# Altium footprint library CONN_TBLOCK_3P5_A.PcbLib: 36 footprints (part 2 of 3)
Each footprint in its own frame and in the unit in brackets; x right, y up, seen from the top. Pads: shape width x height; smd on the part's side, far side on the other; paste and mask are expansions set on the pad; w line width, h text height; cw(c..) or ccw(c..) is an arc to the next point about the centre after c.
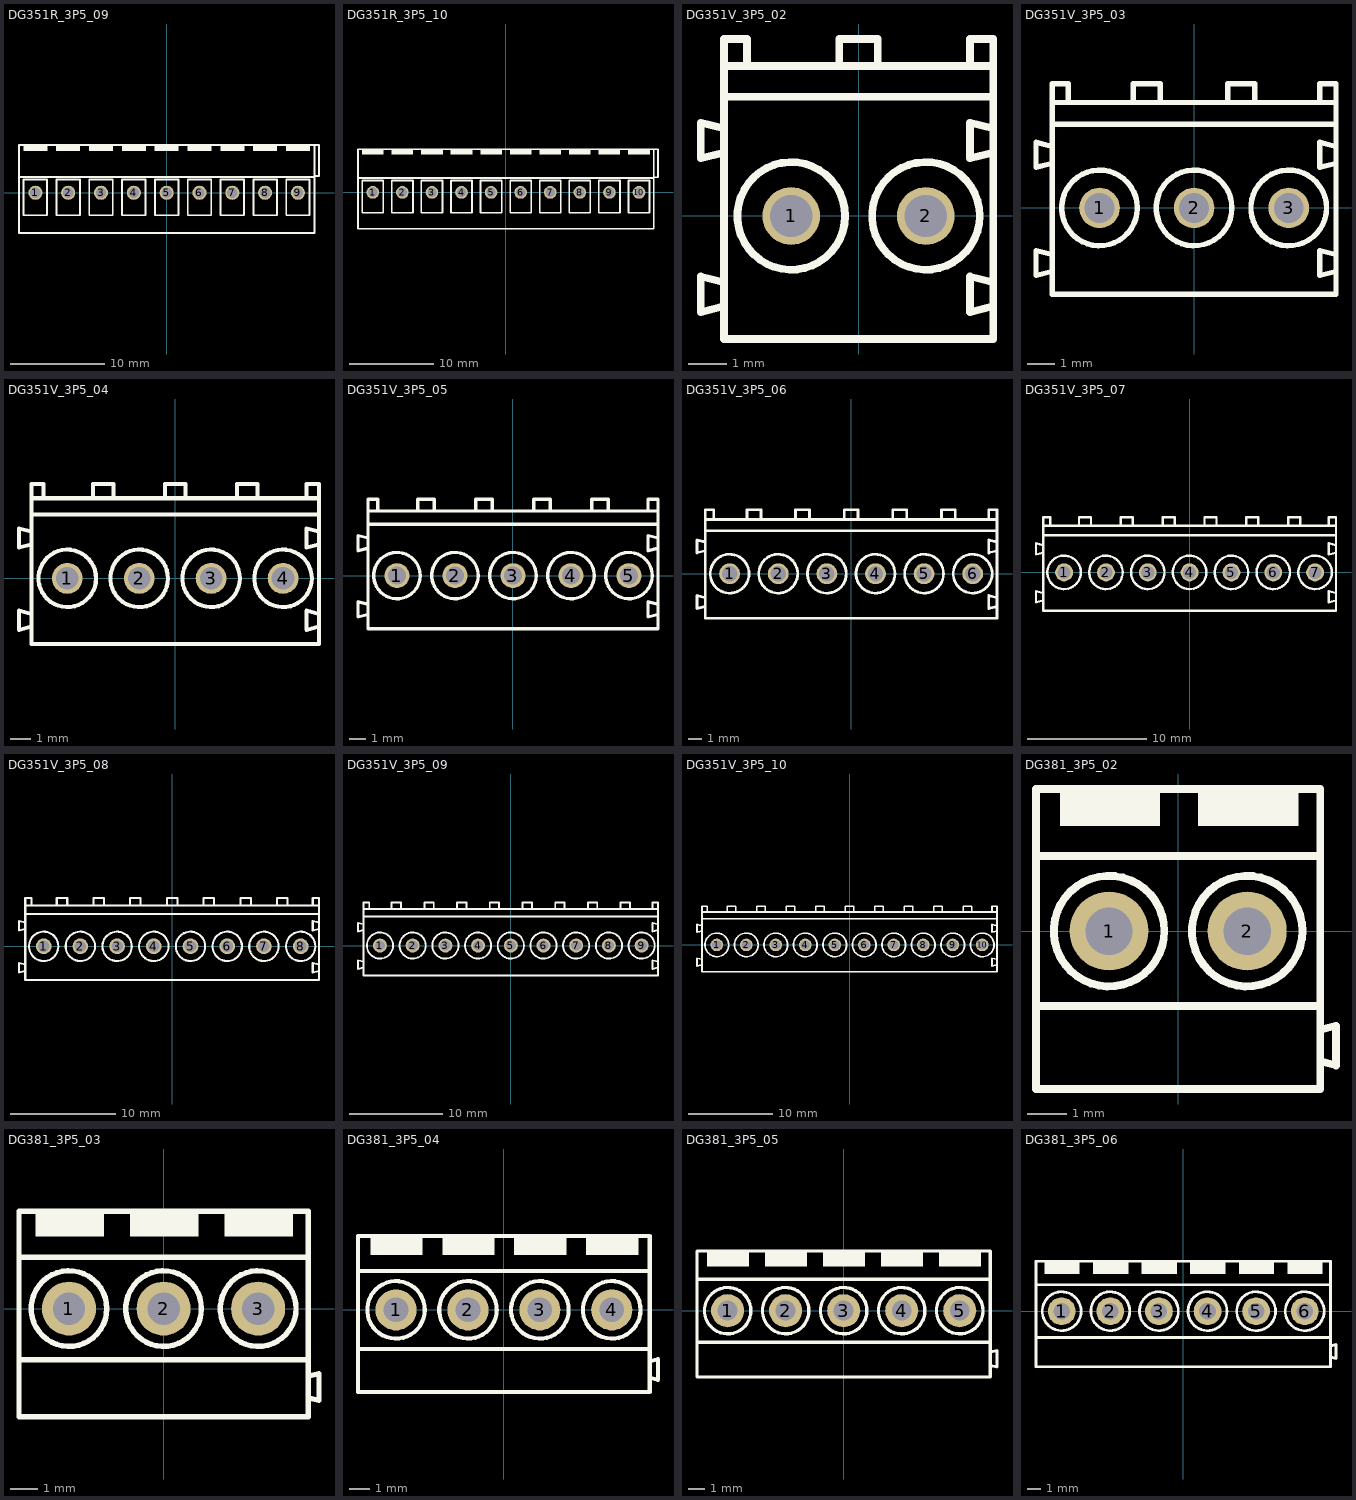
[diagram p1: the footprints below, top view; thin cyan lines are the x and y axes]

## DG351R_3P5_09 [mm] "Terminal Block Screw, Pitch 3.5mm, H 7.6mm"
height 7.6
pads (9):
  round 1.5 / inner round 1.5 / far side rect 2x2.5 hole 1.1: 1(-14,0)
  round 1.5 / inner round 1.5 / far side oval 2x2.5 hole 1.1: 2(-10.5,0) 3(-7,0) 4(-3.5,0) 5(0,0) 6(3.5,0) 7(7,0) 8(10.5,0) 9(14,0)
Top Overlay:
  region: 12.75,5.1 12.75,4.5 15.25,4.5 15.25,5.1
  region: 9.25,5.1 9.25,4.5 11.75,4.5 11.75,5.1
  region: 5.75,5.1 5.75,4.5 8.25,4.5 8.25,5.1
  region: 2.25,5.1 2.25,4.5 4.75,4.5 4.75,5.1
  region: -1.25,5.1 -1.25,4.5 1.25,4.5 1.25,5.1
  region: -4.75,5.1 -4.75,4.5 -2.25,4.5 -2.25,5.1
  region: -8.25,5.1 -8.25,4.5 -5.75,4.5 -5.75,5.1
  region: -11.75,5.1 -11.75,4.5 -9.25,4.5 -9.25,5.1
  region: -15.25,5.1 -15.25,4.5 -12.75,4.5 -12.75,5.1
  lines w0.2: -15.75,1.7 15.75,1.7 ; 15.75,1.8 16.25,1.8 16.25,5.1 15.75,5.1 ; 15.75,5.1 15.75,-4.3 -15.75,-4.3 -15.75,5.1 15.75,5.1 ; -15.25,-2.4 -12.75,-2.4 -12.75,1.4 -15.25,1.4 -15.25,-2.4 ; -11.75,-2.4 -9.25,-2.4 -9.25,1.4 -11.75,1.4 -11.75,-2.4 ; -8.25,-2.4 -5.75,-2.4 -5.75,1.4 -8.25,1.4 -8.25,-2.4 ; -4.75,-2.4 -2.25,-2.4 -2.25,1.4 -4.75,1.4 -4.75,-2.4 ; -1.25,-2.4 1.25,-2.4 1.25,1.4 -1.25,1.4 -1.25,-2.4 ; 2.25,-2.4 4.75,-2.4 4.75,1.4 2.25,1.4 2.25,-2.4 ; 5.75,-2.4 8.25,-2.4 8.25,1.4 5.75,1.4 5.75,-2.4 ; 9.25,-2.4 11.75,-2.4 11.75,1.4 9.25,1.4 9.25,-2.4 ; 12.75,-2.4 15.25,-2.4 15.25,1.4 12.75,1.4 12.75,-2.4
3D body "DG351R-3.5-09P.stp": height 7.65, standoff -4.45, extent -15.795,-4.2 16.245,5

## DG351R_3P5_10 [mm] "Terminal Block Screw, Pitch 3.5mm, H 7.6mm"
height 7.6
pads (10):
  round 1.5 / inner round 1.5 / far side rect 2x2.5 hole 1.1: 1(-15.75,0)
  round 1.5 / inner round 1.5 / far side oval 2x2.5 hole 1.1: 2(-12.25,0) 3(-8.75,0) 4(-5.25,0) 5(-1.75,0) 6(1.75,0) 7(5.25,0) 8(8.75,0) 9(12.25,0) 10(15.75,0)
Top Overlay:
  region: -17,5.1 -17,4.5 -14.5,4.5 -14.5,5.1
  region: -13.5,5.1 -13.5,4.5 -11,4.5 -11,5.1
  region: -10,5.1 -10,4.5 -7.5,4.5 -7.5,5.1
  region: -6.5,5.1 -6.5,4.5 -4,4.5 -4,5.1
  region: -3,5.1 -3,4.5 -0.5,4.5 -0.5,5.1
  region: 0.5,5.1 0.5,4.5 3,4.5 3,5.1
  region: 4,5.1 4,4.5 6.5,4.5 6.5,5.1
  region: 7.5,5.1 7.5,4.5 10,4.5 10,5.1
  region: 11,5.1 11,4.5 13.5,4.5 13.5,5.1
  region: 14.5,5.1 14.5,4.5 17,4.5 17,5.1
  lines w0.2: -17.5,1.7 17.5,1.7 ; 17.5,1.8 18,1.8 18,5.1 17.5,5.1 ; 17.5,5.1 -17.5,5.1 -17.5,-4.3 17.5,-4.3 17.5,5.1 ; -17,-2.4 -17,1.4 -14.5,1.4 -14.5,-2.4 -17,-2.4 ; -13.5,-2.4 -13.5,1.4 -11,1.4 -11,-2.4 -13.5,-2.4 ; -10,-2.4 -10,1.4 -7.5,1.4 -7.5,-2.4 -10,-2.4 ; -6.5,-2.4 -6.5,1.4 -4,1.4 -4,-2.4 -6.5,-2.4 ; -3,-2.4 -3,1.4 -0.5,1.4 -0.5,-2.4 -3,-2.4 ; 0.5,-2.4 0.5,1.4 3,1.4 3,-2.4 0.5,-2.4 ; 4,-2.4 4,1.4 6.5,1.4 6.5,-2.4 4,-2.4 ; 7.5,-2.4 7.5,1.4 10,1.4 10,-2.4 7.5,-2.4 ; 11,-2.4 11,1.4 13.5,1.4 13.5,-2.4 11,-2.4 ; 14.5,-2.4 14.5,1.4 17,1.4 17,-2.4 14.5,-2.4
3D body "DG351R-3.5-10P.stp": height 7.65, standoff -4.45, extent -17.545,-4.2 17.995,5

## DG351V_3P5_02 [mm] "Terminal Block Screw, Pitch 3.5mm, H 9.2mm"
height 9.2
pads (2):
  round 1.5 / inner round 1.5 / far side rect 2x2.5 hole 1.1: 1(-1.75,0)
  round 1.5 / inner round 1.5 / far side oval 2x2.5 hole 1.1: 2(1.75,0)
Top Overlay:
  circle w0.2: c-1.75,0 r1.4
  circle w0.2: c1.75,0 r1.4
  lines w0.2: -3.512,-2.353 -4.1,-2.5 -4.1,-1.575 -3.506,-1.724 ; -3.512,1.647 -4.1,1.5 -4.1,2.425 -3.506,2.276 ; -3.5,3.1 3.5,3.1 ; -2.9,3.9 -2.9,4.6 -3.5,4.6 -3.5,3.9 ; -0.5,3.9 -0.5,4.6 0.5,4.6 0.5,3.9 ; 2.9,3.9 2.9,4.6 3.5,4.6 3.5,3.9 ; 3.488,-2.353 2.9,-2.5 2.9,-1.575 3.494,-1.724 ; 3.488,1.647 2.9,1.5 2.9,2.425 3.494,2.276 ; -3.5,3.9 3.5,3.9 ; -3.5,3.9 -3.5,-3.2 3.5,-3.2 3.5,3.9
3D body "DG351V-3.5-02P.stp": height 9.3, standoff -4.4, extent -4.02,-3.1 3.52,4.5

## DG351V_3P5_03 [mm] "Terminal Block Screw, Pitch 3.5mm, H 9.2mm"
height 9.2
pads (3):
  round 1.5 / inner round 1.5 / far side rect 2x2.5 hole 1.1: 1(-3.5,0)
  round 1.5 / inner round 1.5 / far side oval 2x2.5 hole 1.1: 2(0,0) 3(3.5,0)
Top Overlay:
  circle w0.2: c-3.5,0 r1.4
  circle w0.2: c0,0 r1.4
  circle w0.2: c3.5,0 r1.4
  lines w0.2: -5.262,-2.353 -5.85,-2.5 -5.85,-1.575 -5.256,-1.724 ; -5.262,1.647 -5.85,1.5 -5.85,2.425 -5.256,2.276 ; -5.25,3.1 5.25,3.1 ; -4.65,3.9 -4.65,4.6 -5.25,4.6 -5.25,3.9 ; -2.25,3.9 -2.25,4.6 -1.25,4.6 -1.25,3.9 ; 1.25,3.9 1.25,4.6 2.25,4.6 2.25,3.9 ; 4.65,3.9 4.65,4.6 5.25,4.6 5.25,3.9 ; 5.238,-2.353 4.65,-2.5 4.65,-1.575 5.244,-1.724 ; 5.238,1.647 4.65,1.5 4.65,2.425 5.244,2.276 ; -5.25,3.9 5.25,3.9 ; -5.25,3.9 -5.25,-3.2 5.25,-3.2 5.25,3.9
3D body "DG351V-3.5-03P.stp": height 9.2, standoff -4.5, extent -5.77,-3.1 5.27,4.5

## DG351V_3P5_04 [mm] "Terminal Block Screw, Pitch 3.5mm, H 9.2mm"
height 9.2
pads (4):
  round 1.5 / inner round 1.5 / far side rect 2x2.5 hole 1.1: 1(-5.25,0)
  round 1.5 / inner round 1.5 / far side oval 2x2.5 hole 1.1: 2(-1.75,0) 3(1.75,0) 4(5.25,0)
Top Overlay:
  circle w0.2: c-5.25,0 r1.4
  circle w0.2: c-1.75,0 r1.4
  circle w0.2: c1.75,0 r1.4
  circle w0.2: c5.25,0 r1.4
  lines w0.2: -7.012,-2.353 -7.6,-2.5 -7.6,-1.575 -7.006,-1.724 ; -7.012,1.647 -7.6,1.5 -7.6,2.425 -7.006,2.276 ; -7,3.1 7,3.1 ; -6.4,3.9 -6.4,4.6 -7,4.6 -7,3.9 ; -4,3.9 -4,4.6 -3,4.6 -3,3.9 ; -0.5,3.9 -0.5,4.6 0.5,4.6 0.5,3.9 ; 3,3.9 3,4.6 4,4.6 4,3.9 ; 6.4,3.9 6.4,4.6 7,4.6 7,3.9 ; 6.988,-2.353 6.4,-2.5 6.4,-1.575 6.994,-1.724 ; 6.988,1.647 6.4,1.5 6.4,2.425 6.994,2.276 ; -7,3.9 7,3.9 ; -7,3.9 -7,-3.2 7,-3.2 7,3.9
3D body "DG351V-3.5-04P.stp": height 27.7, standoff 14, extent -7.545,-3.1 6.995,4.5

## DG351V_3P5_05 [mm] "Terminal Block Screw, Pitch 3.5mm, H 9.2mm"
height 9.2
pads (5):
  round 1.5 / inner round 1.5 / far side rect 2x2.5 hole 1.1: 1(-7,0)
  round 1.5 / inner round 1.5 / far side oval 2x2.5 hole 1.1: 2(-3.5,0) 3(0,0) 4(3.5,0) 5(7,0)
Top Overlay:
  circle w0.2: c7,0 r1.4
  circle w0.2: c3.5,0 r1.4
  circle w0.2: c0,0 r1.4
  circle w0.2: c-3.5,0 r1.4
  circle w0.2: c-7,0 r1.4
  lines w0.2: -8.762,-2.353 -9.35,-2.5 -9.35,-1.575 -8.756,-1.724 ; -8.762,1.647 -9.35,1.5 -9.35,2.425 -8.756,2.276 ; -8.75,3.1 8.75,3.1 ; -8.15,3.9 -8.15,4.6 -8.75,4.6 -8.75,3.9 ; -5.75,3.9 -5.75,4.6 -4.75,4.6 -4.75,3.9 ; -2.25,3.9 -2.25,4.6 -1.25,4.6 -1.25,3.9 ; 1.25,3.9 1.25,4.6 2.25,4.6 2.25,3.9 ; 4.75,3.9 4.75,4.6 5.75,4.6 5.75,3.9 ; 8.15,3.9 8.15,4.6 8.75,4.6 8.75,3.9 ; 8.738,-2.353 8.15,-2.5 8.15,-1.575 8.744,-1.724 ; 8.738,1.647 8.15,1.5 8.15,2.425 8.744,2.276 ; -8.75,3.9 -8.75,-3.2 8.75,-3.2 8.75,3.9 ; -8.75,3.9 8.75,3.9
3D body "DG351V-3.5-02P.stp": height 9.3, standoff -4.4, extent 1.23,-3.1 8.77,4.5
3D body "DG351V-3.5-03P.stp": height 9.2, standoff -4.5, extent -9.27,-3.1 1.77,4.5

## DG351V_3P5_06 [mm] "Terminal Block Screw, Pitch 3.5mm, H 9.2mm"
height 9.2
pads (6):
  round 1.5 / inner round 1.5 / far side rect 2x2.5 hole 1.1: 1(-8.75,0)
  round 1.5 / inner round 1.5 / far side oval 2x2.5 hole 1.1: 2(-5.25,0) 3(-1.75,0) 4(1.75,0) 5(5.25,0) 6(8.75,0)
Top Overlay:
  circle w0.2: c-8.75,0 r1.4
  circle w0.2: c-5.25,0 r1.4
  circle w0.2: c-1.75,0 r1.4
  circle w0.2: c1.75,0 r1.4
  circle w0.2: c5.25,0 r1.4
  circle w0.2: c8.75,0 r1.4
  lines w0.2: -10.512,-2.353 -11.1,-2.5 -11.1,-1.575 -10.506,-1.724 ; -10.512,1.647 -11.1,1.5 -11.1,2.425 -10.506,2.276 ; -10.5,3.1 10.5,3.1 ; -9.9,3.9 -9.9,4.6 -10.5,4.6 -10.5,3.9 ; -7.5,3.9 -7.5,4.6 -6.5,4.6 -6.5,3.9 ; -4,3.9 -4,4.6 -3,4.6 -3,3.9 ; -0.5,3.9 -0.5,4.6 0.5,4.6 0.5,3.9 ; 3,3.9 3,4.6 4,4.6 4,3.9 ; 6.5,3.9 6.5,4.6 7.5,4.6 7.5,3.9 ; 9.9,3.9 9.9,4.6 10.5,4.6 10.5,3.9 ; 10.488,-2.353 9.9,-2.5 9.9,-1.575 10.494,-1.724 ; 10.488,1.647 9.9,1.5 9.9,2.425 10.494,2.276 ; -10.5,3.9 10.5,3.9 ; -10.5,3.9 -10.5,-3.2 10.5,-3.2 10.5,3.9
3D body "DG351V-3.5-06P.stp": height -8.8, standoff -22.5, extent -11.045,-3.1 10.495,4.5

## DG351V_3P5_07 [mm] "Terminal Block Screw, Pitch 3.5mm, H 9.2mm"
height 9.2
pads (7):
  round 1.5 / inner round 1.5 / far side rect 2x2.5 hole 1.1: 1(-10.5,0)
  round 1.5 / inner round 1.5 / far side oval 2x2.5 hole 1.1: 2(-7,0) 3(-3.5,0) 4(0,0) 5(3.5,0) 6(7,0) 7(10.5,0)
Top Overlay:
  circle w0.2: c-10.5,0 r1.4
  circle w0.2: c-7,0 r1.4
  circle w0.2: c-3.5,0 r1.4
  circle w0.2: c0,0 r1.4
  circle w0.2: c3.5,0 r1.4
  circle w0.2: c7,0 r1.4
  circle w0.2: c10.5,0 r1.4
  lines w0.2: -12.262,-2.353 -12.85,-2.5 -12.85,-1.575 -12.256,-1.724 ; -12.262,1.647 -12.85,1.5 -12.85,2.425 -12.256,2.276 ; -12.25,3.1 12.25,3.1 ; -11.65,3.9 -11.65,4.6 -12.25,4.6 -12.25,3.9 ; -9.25,3.9 -9.25,4.6 -8.25,4.6 -8.25,3.9 ; -5.75,3.9 -5.75,4.6 -4.75,4.6 -4.75,3.9 ; -2.25,3.9 -2.25,4.6 -1.25,4.6 -1.25,3.9 ; 1.25,3.9 1.25,4.6 2.25,4.6 2.25,3.9 ; 4.75,3.9 4.75,4.6 5.75,4.6 5.75,3.9 ; 8.25,3.9 8.25,4.6 9.25,4.6 9.25,3.9 ; 11.65,3.9 11.65,4.6 12.25,4.6 12.25,3.9 ; 12.238,-2.353 11.65,-2.5 11.65,-1.575 12.244,-1.724 ; 12.238,1.647 11.65,1.5 11.65,2.425 12.244,2.276 ; -12.25,3.9 12.25,3.9 ; -12.25,3.9 -12.25,-3.2 12.25,-3.2 12.25,3.9
3D body "DG351V-3.5-07P.stp": height 27.7, standoff 14, extent -12.795,-3.1 12.245,4.5

## DG351V_3P5_08 [mm] "Terminal Block Screw, Pitch 3.5mm, H 9.2mm"
height 9.2
pads (8):
  round 1.5 / inner round 1.5 / far side rect 2x2.5 hole 1.1: 1(-12.25,0)
  round 1.5 / inner round 1.5 / far side oval 2x2.5 hole 1.1: 2(-8.75,0) 3(-5.25,0) 4(-1.75,0) 5(1.75,0) 6(5.25,0) 7(8.75,0) 8(12.25,0)
Top Overlay:
  circle w0.2: c-12.25,0 r1.4
  circle w0.2: c-8.75,0 r1.4
  circle w0.2: c-5.25,0 r1.4
  circle w0.2: c-1.75,0 r1.4
  circle w0.2: c1.75,0 r1.4
  circle w0.2: c5.25,0 r1.4
  circle w0.2: c8.75,0 r1.4
  circle w0.2: c12.25,0 r1.4
  lines w0.2: -14.012,-2.353 -14.6,-2.5 -14.6,-1.575 -14.006,-1.724 ; -14.012,1.647 -14.6,1.5 -14.6,2.425 -14.006,2.276 ; -14,3.1 14,3.1 ; -13.4,3.9 -13.4,4.6 -14,4.6 -14,3.9 ; -11,3.9 -11,4.6 -10,4.6 -10,3.9 ; -7.5,3.9 -7.5,4.6 -6.5,4.6 -6.5,3.9 ; -4,3.9 -4,4.6 -3,4.6 -3,3.9 ; -0.5,3.9 -0.5,4.6 0.5,4.6 0.5,3.9 ; 3,3.9 3,4.6 4,4.6 4,3.9 ; 6.5,3.9 6.5,4.6 7.5,4.6 7.5,3.9 ; 10,3.9 10,4.6 11,4.6 11,3.9 ; 13.4,3.9 13.4,4.6 14,4.6 14,3.9 ; 13.988,-2.353 13.4,-2.5 13.4,-1.575 13.994,-1.724 ; 13.988,1.647 13.4,1.5 13.4,2.425 13.994,2.276 ; -14,3.9 14,3.9 ; -14,3.9 -14,-3.2 14,-3.2 14,3.9
3D body "DG351V-3.5-08P.stp": height 9.2, standoff -4.5, extent -14.545,-3.1 13.995,4.5

## DG351V_3P5_09 [mm] "Terminal Block Screw, Pitch 3.5mm, H 9.2mm"
height 9.2
pads (9):
  round 1.5 / inner round 1.5 / far side rect 2x2.5 hole 1.1: 1(-14,0)
  round 1.5 / inner round 1.5 / far side oval 2x2.5 hole 1.1: 2(-10.5,0) 3(-7,0) 4(-3.5,0) 5(0,0) 6(3.5,0) 7(7,0) 8(10.5,0) 9(14,0)
Top Overlay:
  circle w0.2: c-14,0 r1.4
  circle w0.2: c-10.5,0 r1.4
  circle w0.2: c-7,0 r1.4
  circle w0.2: c-3.5,0 r1.4
  circle w0.2: c0,0 r1.4
  circle w0.2: c3.5,0 r1.4
  circle w0.2: c7,0 r1.4
  circle w0.2: c10.5,0 r1.4
  circle w0.2: c14,0 r1.4
  lines w0.2: -15.762,-2.353 -16.35,-2.5 -16.35,-1.575 -15.756,-1.724 ; -15.762,1.647 -16.35,1.5 -16.35,2.425 -15.756,2.276 ; -15.75,3.1 15.75,3.1 ; -15.15,3.9 -15.15,4.6 -15.75,4.6 -15.75,3.9 ; -12.75,3.9 -12.75,4.6 -11.75,4.6 -11.75,3.9 ; -9.25,3.9 -9.25,4.6 -8.25,4.6 -8.25,3.9 ; -5.75,3.9 -5.75,4.6 -4.75,4.6 -4.75,3.9 ; -2.25,3.9 -2.25,4.6 -1.25,4.6 -1.25,3.9 ; 1.25,3.9 1.25,4.6 2.25,4.6 2.25,3.9 ; 4.75,3.9 4.75,4.6 5.75,4.6 5.75,3.9 ; 8.25,3.9 8.25,4.6 9.25,4.6 9.25,3.9 ; 11.75,3.9 11.75,4.6 12.75,4.6 12.75,3.9 ; 15.15,3.9 15.15,4.6 15.75,4.6 15.75,3.9 ; 15.738,-2.353 15.15,-2.5 15.15,-1.575 15.744,-1.724 ; 15.738,1.647 15.15,1.5 15.15,2.425 15.744,2.276 ; -15.75,3.9 15.75,3.9 ; -15.75,3.9 -15.75,-3.2 15.75,-3.2 15.75,3.9
3D body "DG351V-3.5-09P.stp": height -8.8, standoff -22.5, extent -16.295,-3.1 15.745,4.5

## DG351V_3P5_10 [mm] "Terminal Block Screw, Pitch 3.5mm, H 9.2mm"
height 9.2
pads (10):
  round 1.5 / inner round 1.5 / far side rect 2x2.5 hole 1.1: 1(-15.75,0)
  round 1.5 / inner round 1.5 / far side oval 2x2.5 hole 1.1: 2(-12.25,0) 3(-8.75,0) 4(-5.25,0) 5(-1.75,0) 6(1.75,0) 7(5.25,0) 8(8.75,0) 9(12.25,0) 10(15.75,0)
Top Overlay:
  circle w0.2: c15.75,0 r1.4
  circle w0.2: c12.25,0 r1.4
  circle w0.2: c8.75,0 r1.4
  circle w0.2: c5.25,0 r1.4
  circle w0.2: c1.75,0 r1.4
  circle w0.2: c-1.75,0 r1.4
  circle w0.2: c-5.25,0 r1.4
  circle w0.2: c-8.75,0 r1.4
  circle w0.2: c-12.25,0 r1.4
  circle w0.2: c-15.75,0 r1.4
  lines w0.2: -17.512,-2.353 -18.1,-2.5 -18.1,-1.575 -17.506,-1.724 ; -17.512,1.647 -18.1,1.5 -18.1,2.425 -17.506,2.276 ; -17.5,3.1 17.5,3.1 ; -16.9,3.9 -16.9,4.6 -17.5,4.6 -17.5,3.9 ; -14.5,3.9 -14.5,4.6 -13.5,4.6 -13.5,3.9 ; -11,3.9 -11,4.6 -10,4.6 -10,3.9 ; -7.5,3.9 -7.5,4.6 -6.5,4.6 -6.5,3.9 ; -4,3.9 -4,4.6 -3,4.6 -3,3.9 ; -0.5,3.9 -0.5,4.6 0.5,4.6 0.5,3.9 ; 3,3.9 3,4.6 4,4.6 4,3.9 ; 6.5,3.9 6.5,4.6 7.5,4.6 7.5,3.9 ; 10,3.9 10,4.6 11,4.6 11,3.9 ; 13.5,3.9 13.5,4.6 14.5,4.6 14.5,3.9 ; 16.9,3.9 16.9,4.6 17.5,4.6 17.5,3.9 ; 17.488,-2.353 16.9,-2.5 16.9,-1.575 17.494,-1.724 ; 17.488,1.647 16.9,1.5 16.9,2.425 17.494,2.276 ; -17.5,3.9 -17.5,-3.2 17.5,-3.2 17.5,3.9 ; -17.5,3.9 17.5,3.9
3D body "DG351V-3.5-10P.stp": height 9.2, standoff -4.5, extent -18.045,-3.1 17.495,4.5

## DG381_3P5_02 [mm] "Terminal Block Screw, Pitch 3.5mm, H 8.6mm"
height 8.6
pads (2):
  round 2 / inner round 2 / far side rect 2.4x3 hole 1.2: 1(-1.75,0)
  round 2 / inner round 2 / far side oval 2.4x3 hole 1.2: 2(1.75,0)
Top Overlay:
  circle w0.2: c-1.75,0 r1.4
  circle w0.2: c1.75,0 r1.4
  rectangle: -2.996,2.667 -0.456,3.556
  rectangle: 0.504,2.667 3.044,3.556
  lines w0.2: -3.6,-1.9 3.6,-1.9 ; -3.6,1.9 3.6,1.9 ; 3.6,-3.3 4,-3.4 4,-2.4 3.6,-2.5 ; -3.6,-4 -3.6,3.6 3.6,3.6 3.6,-4 -3.6,-4
3D body "DG381-3.5-02P-14.stp": height 8.6, standoff -3.6, extent -3.5,-3.875 3.9,3.525

## DG381_3P5_03 [mm] "Terminal Block Screw, Pitch 3.5mm, H 8.6mm"
height 8.6
pads (3):
  round 2 / inner round 2 / far side rect 2.4x3 hole 1.2: 1(-3.5,0)
  round 2 / inner round 2 / far side oval 2.4x3 hole 1.2: 2(0,0) 3(3.5,0)
Top Overlay:
  circle w0.2: c0,0 r1.4
  circle w0.2: c3.5,0 r1.4
  circle w0.2: c-3.5,0 r1.4
  rectangle: -1.246,2.667 1.294,3.556
  rectangle: 2.254,2.667 4.794,3.556
  rectangle: -4.746,2.667 -2.206,3.556
  lines w0.2: -5.35,-1.9 5.35,-1.9 ; -5.35,1.9 5.35,1.9 ; 5.35,-3.3 5.75,-3.4 5.75,-2.4 5.35,-2.5 ; -5.35,-4 -5.35,3.6 5.35,3.6 5.35,-4 -5.35,-4
3D body "DG381-3.5-03P-14.stp": height 8.6, standoff -3.6, extent -5.25,-3.9 5.65,3.5

## DG381_3P5_04 [mm] "Terminal Block Screw, Pitch 3.5mm, H 8.6mm"
height 8.6
pads (4):
  round 2 / inner round 2 / far side rect 2.4x3 hole 1.2: 1(-5.25,0)
  round 2 / inner round 2 / far side oval 2.4x3 hole 1.2: 2(-1.75,0) 3(1.75,0) 4(5.25,0)
Top Overlay:
  circle w0.2: c1.75,0 r1.4
  circle w0.2: c5.25,0 r1.4
  circle w0.2: c-5.25,0 r1.4
  circle w0.2: c-1.75,0 r1.4
  rectangle: 0.504,2.667 3.044,3.556
  rectangle: 4.004,2.667 6.544,3.556
  rectangle: -6.496,2.667 -3.956,3.556
  rectangle: -2.996,2.667 -0.456,3.556
  lines w0.2: -7.1,-1.9 7.1,-1.9 ; -7.1,1.9 7.1,1.9 ; 7.1,-3.3 7.5,-3.4 7.5,-2.4 7.1,-2.5 ; -7.1,-4 -7.1,3.6 7.1,3.6 7.1,-4 -7.1,-4
3D body "DG381-3.5-04P-14.stp": height 8.6, standoff -3.6, extent -7,-3.9 7.4,3.5

## DG381_3P5_05 [mm] "Terminal Block Screw, Pitch 3.5mm, H 8.6mm"
height 8.6
pads (5):
  round 2 / inner round 2 / far side rect 2.4x3 hole 1.2: 1(-7,0)
  round 2 / inner round 2 / far side oval 2.4x3 hole 1.2: 2(-3.5,0) 3(0,0) 4(3.5,0) 5(7,0)
Top Overlay:
  circle w0.2: c3.5,0 r1.4
  circle w0.2: c7,0 r1.4
  circle w0.2: c-3.5,0 r1.4
  circle w0.2: c0,0 r1.4
  circle w0.2: c-7,0 r1.4
  rectangle: 2.254,2.667 4.794,3.556
  rectangle: 5.754,2.667 8.294,3.556
  rectangle: -4.746,2.667 -2.206,3.556
  rectangle: -1.246,2.667 1.294,3.556
  rectangle: -8.246,2.667 -5.706,3.556
  lines w0.2: -8.85,-1.9 8.85,-1.9 ; -8.85,1.9 8.85,1.9 ; 8.85,-3.3 9.25,-3.4 9.25,-2.4 8.85,-2.5 ; -8.85,-4 -8.85,3.6 8.85,3.6 8.85,-4 -8.85,-4
3D body "DG381-3.5-05P-14.stp": height 8.6, standoff -3.6, extent -8.75,-3.9 9.15,3.5

## DG381_3P5_06 [mm] "Terminal Block Screw, Pitch 3.5mm, H 8.6mm"
height 8.6
pads (6):
  round 2 / inner round 2 / far side rect 2.4x3 hole 1.2: 1(-8.75,0)
  round 2 / inner round 2 / far side oval 2.4x3 hole 1.2: 2(-5.25,0) 3(-1.75,0) 4(1.75,0) 5(5.25,0) 6(8.75,0)
Top Overlay:
  circle w0.2: c5.25,0 r1.4
  circle w0.2: c8.75,0 r1.4
  circle w0.2: c-1.75,0 r1.4
  circle w0.2: c1.75,0 r1.4
  circle w0.2: c-8.75,0 r1.4
  circle w0.2: c-5.25,0 r1.4
  rectangle: 4.004,2.667 6.544,3.556
  rectangle: 7.504,2.667 10.044,3.556
  rectangle: -2.996,2.667 -0.456,3.556
  rectangle: 0.504,2.667 3.044,3.556
  rectangle: -9.996,2.667 -7.456,3.556
  rectangle: -6.496,2.667 -3.956,3.556
  lines w0.2: -10.6,-1.9 10.6,-1.9 ; -10.6,1.9 10.6,1.9 ; 10.6,-3.3 11,-3.4 11,-2.4 10.6,-2.5 ; -10.6,-4 -10.6,3.6 10.6,3.6 10.6,-4 -10.6,-4
3D body "DG381-3.5-06P-14.stp": height 8.6, standoff -3.6, extent -10.5,-3.9 10.9,3.5